# EAGLE library part REF50XX (library GuShH)
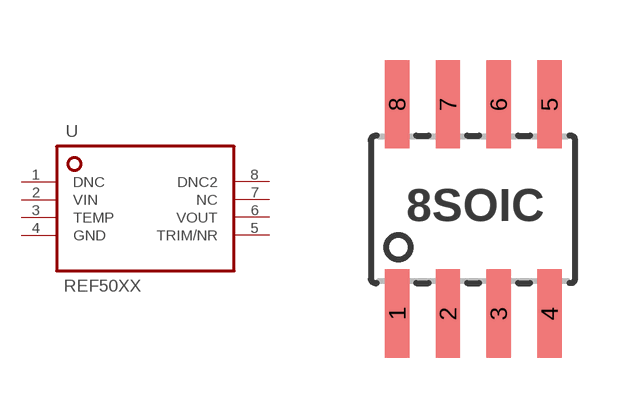
[diagram p5: symbol with the pads of 8-SOIC; footprint 8-SOIC]

Designator prefix -

## REF50XX  [8-SOIC]
1  DNC  nc
2  VIN  pwr
3  TEMP
4  GND  pwr
5  TRIM/NR
6  VOUT  out
7  NC  nc
8  DNC2  nc

## Footprint 8-SOIC (pad centres in mm)
smd 0.61 x 2.21: 1 -1.905,-2.616; 2 -0.635,-2.616; 3 0.635,-2.616; 4 1.905,-2.616; 5 1.905,2.616; 6 0.635,2.616; 7 -0.635,2.616; 8 -1.905,2.616